# Altium footprint library switch-reed.PCBLIB: 11 footprints
Each footprint in its own frame and in the unit in brackets; x right, y up, seen from the top. Pads: shape width x height; smd on the part's side, far side on the other; paste and mask are expansions set on the pad; w line width, h text height; cw(c..) or ccw(c..) is an arc to the next point about the centre after c.
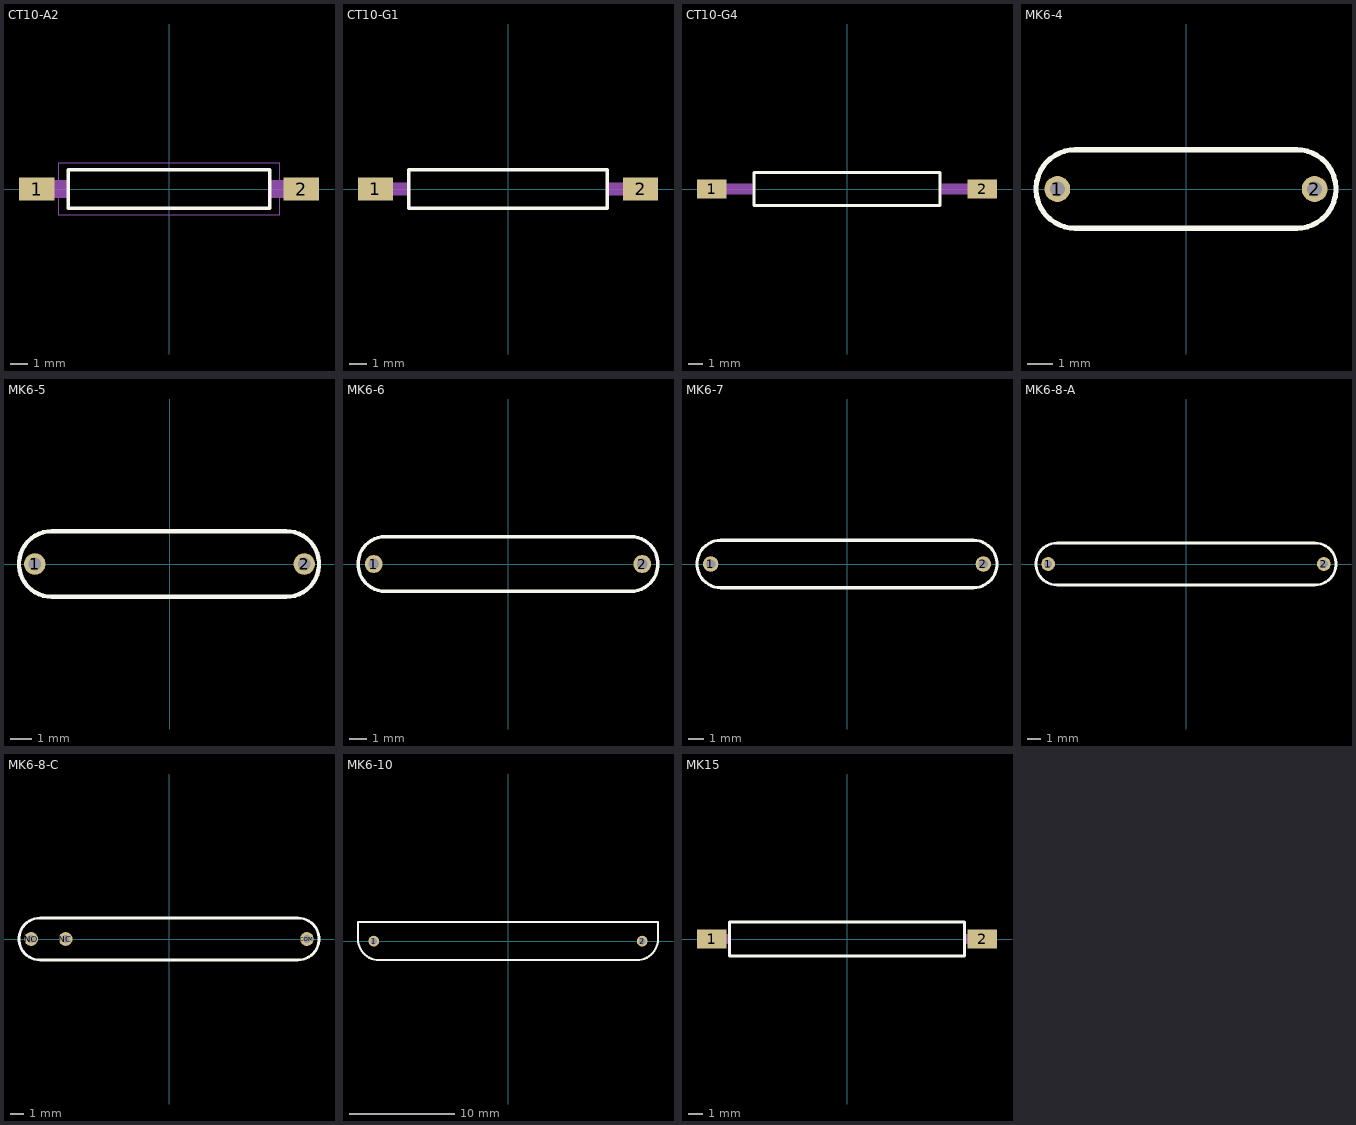
[diagram p0: the footprints below, top view; thin cyan lines are the x and y axes]

## CT10-A2 [mm]
pads (2):
  rect 2x1.3 smd: 1(-7.5,0) 2(7.5,0)
Top Overlay:
  lines w0.203: -5.7,-1.1 5.7,-1.1 5.7,1.1 -5.7,1.1 -5.7,-1.1
Mechanical 1:
  lines w0: -6.25,-1.5 6.25,-1.5 6.25,1.5 -6.25,1.5 -6.25,-1.5
Mechanical 16:
  rectangle: -7.86,-0.505 -5.7,0.505
  region: 7.86,0.505 5.7,0.505 5.7,-0.505 7.86,-0.505

## CT10-G1 [mm]
pads (2):
  rect 2x1.3 smd: 1(-7.62,0) 2(7.62,0)
Top Overlay:
  lines w0.203: -5.7,-1.1 5.7,-1.1 5.7,1.1 -5.7,1.1 -5.7,-1.1
Mechanical 16:
  rectangle: -8.175,-0.375 -5.7,0.375
  region: 8.175,0.375 5.7,0.375 5.7,-0.375 8.175,-0.375

## CT10-G4 [mm]
pads (2):
  rect 2x1.3 smd: 1(-9.145,0) 2(9.145,0)
Top Overlay:
  lines w0.203: -6.3,-1.1 6.3,-1.1 6.3,1.1 -6.3,1.1 -6.3,-1.1
Mechanical 16:
  rectangle: -9.7,-0.375 -6.4,0.375
  region: 9.7,0.375 6.4,0.375 6.4,-0.375 9.7,-0.375

## MK6-4 [mil]
pads (2):
  round 40 hole 23.62: 1(-200,0) 2(200,0)
Top Overlay:
  lines w8: -172.24,-61.02 172.24,-61.02 ccw(c172.24,0) 172.24,61.02 -172.24,61.02 ccw(c-172.24,0) -172.24,-61.02

## MK6-5 [mil]
pads (2):
  round 40 hole 23.62: 1(-250,0) 2(250,0)
Top Overlay:
  lines w8: -218.31,-61.02 216.34,-61.02 ccw(c216.34,0) 216.34,61.02 -218.31,61.02 ccw(c-218.31,0) -218.31,-61.02

## MK6-6 [mil]
pads (2):
  round 40 hole 23.62: 1(-300,0) 2(300,0)
Top Overlay:
  lines w8: -274.21,-61.02 274.21,-61.02 ccw(c274.21,0) 274.21,61.02 -274.21,61.02 ccw(c-274.21,0) -274.21,-61.02

## MK6-7 [mil]
pads (2):
  round 40 hole 23.62: 1(-350,0) 2(350,0)
Top Overlay:
  lines w8: -324.21,-61.02 324.21,-61.02 ccw(c324.21,0) 324.21,61.02 -324.21,61.02 ccw(c-324.21,0) -324.21,-61.02

## MK6-8-A [mil]
pads (2):
  round 40 hole 23.62: 1(-400,0) 2(400,0)
Top Overlay:
  lines w8: -374.21,-61.02 374.21,-61.02 ccw(c374.21,0) 374.21,61.02 -374.21,61.02 ccw(c-374.21,0) -374.21,-61.02

## MK6-8-C [mil]
pads (3):
  round 40 hole 23.62: COM(400,0) NC(-300,0) NO(-400,0)
Top Overlay:
  lines w8: -374.21,-61.02 374.21,-61.02 ccw(c374.21,0) 374.21,61.02 -374.21,61.02 ccw(c-374.21,0) -374.21,-61.02

## MK6-10 [mil]
pads (2):
  round 40 hole 23.62: 1(-500,0) 2(500,0)
Top Overlay:
  lines w8: -559.06,7.87 ccw(c-480.32,7.87) -480.32,-70.87 480.32,-70.87 ccw(c480.32,7.87) 559.06,7.87 559.06,70.87 -559.06,70.87 -559.06,7.87

## MK15 [mm]
pads (2):
  rect 2x1.3 smd: 1(-9.1,0) 2(9.1,0)
Top Overlay:
  lines w0.203: -7.9,-1.15 7.9,-1.15 7.9,1.15 -7.9,1.15 -7.9,-1.15
Mechanical 16:
  rectangle: -9.75,-0.35 -7.9,0.35
  region: 9.75,0.35 7.9,0.35 7.9,-0.35 9.75,-0.35